# Altium footprint library MCU.PcbLib: 52 footprints (part 3 of 4)
Each footprint in its own frame and in the unit in brackets; x right, y up, seen from the top. Pads: shape width x height; smd on the part's side, far side on the other; paste and mask are expansions set on the pad; w line width, h text height; cw(c..) or ccw(c..) is an arc to the next point about the centre after c.
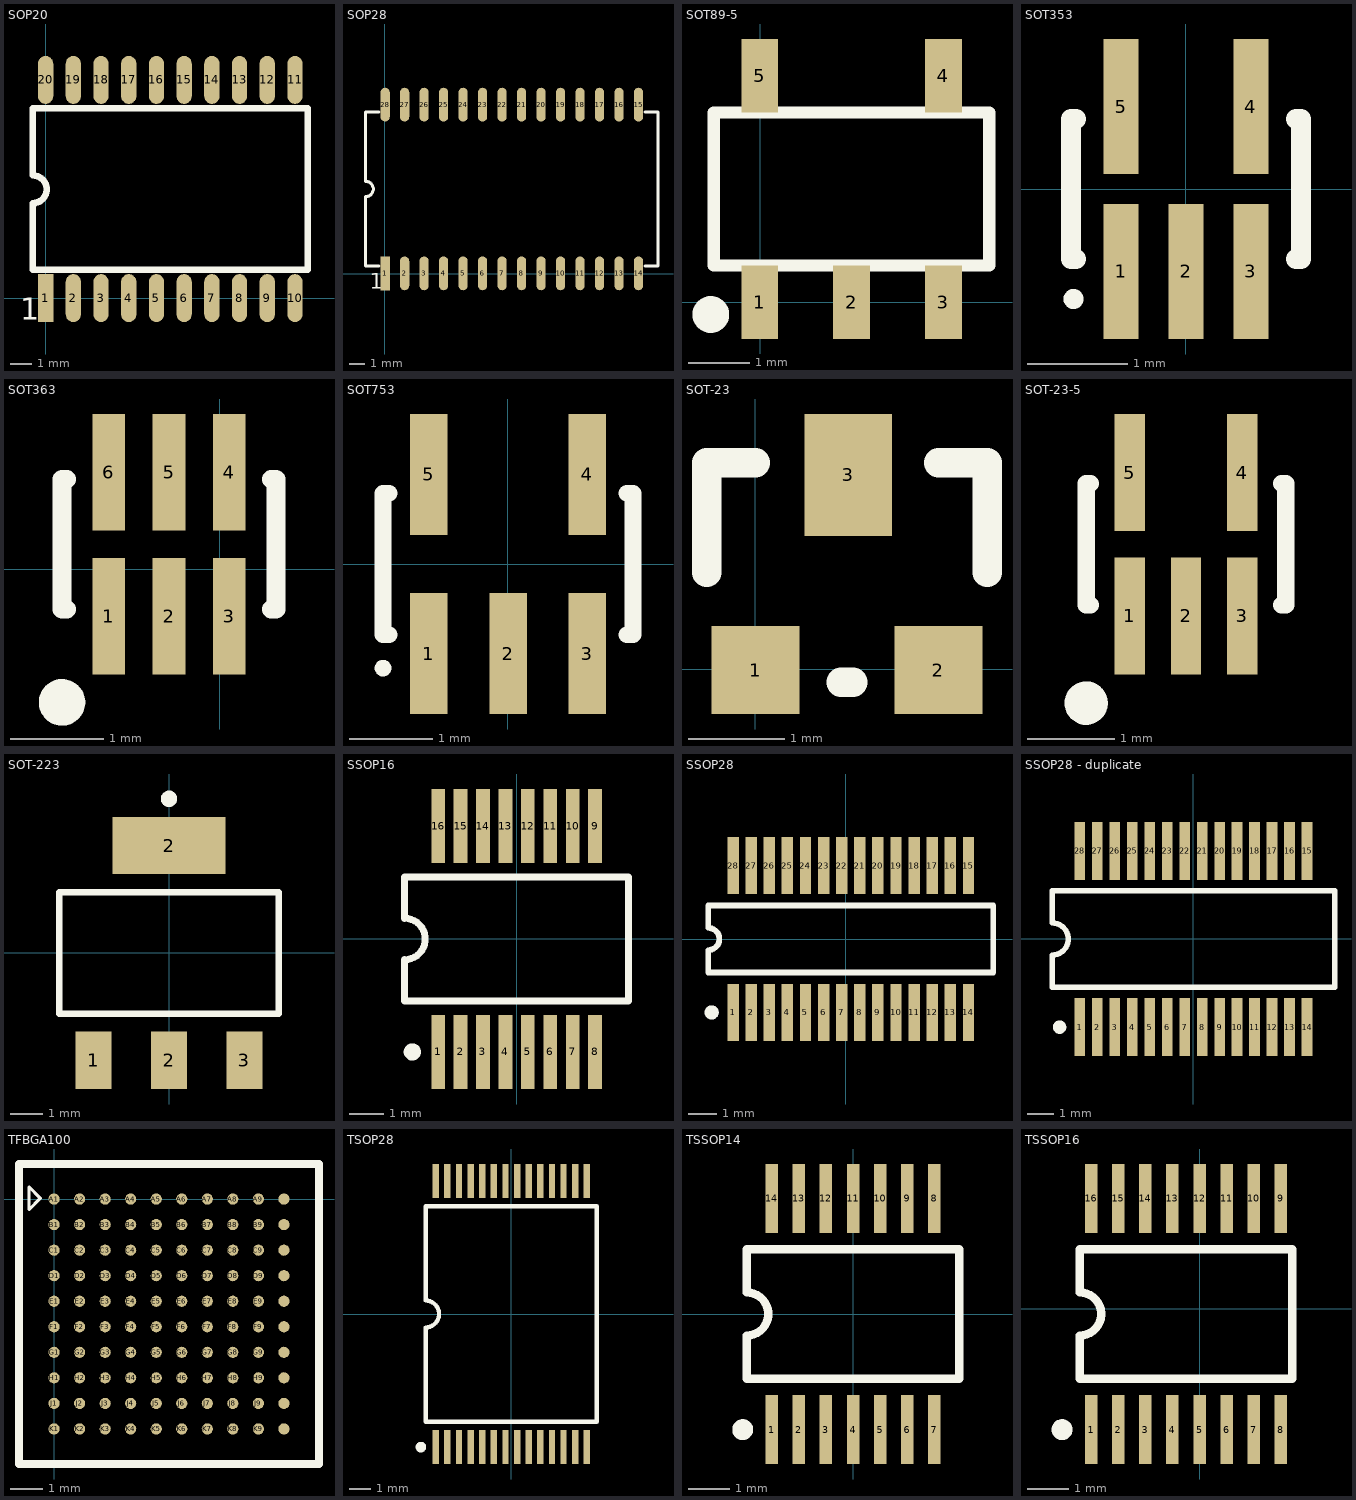
[diagram p2: the footprints below, top view; thin cyan lines are the x and y axes]

## SOP20 [mm]
pads (20):
  rect 0.7x2.2 smd: 1(-0.008,0.005)
  oval 0.7x2.2 smd: 2(1.262,0.005) 3(2.532,0.005) 4(3.802,0.005) 5(5.072,0.005) 6(6.342,0.005) 7(7.612,0.005) 8(8.882,0.005) 9(10.152,0.005) 10(11.422,0.005) 11(11.422,10.005) 12(10.152,10.005) 13(8.882,10.005) 14(7.612,10.005) 15(6.342,10.005) 16(5.072,10.005) 17(3.802,10.005) 18(2.532,10.005) 19(1.262,10.005) 20(-0.008,10.005)
Top Overlay:
  lines w0.3: -0.593,1.305 -0.593,4.355 ccw(c-0.593,4.99) -0.593,5.625 -0.593,8.705 12.007,8.705 12.007,1.305 -0.593,1.305
  text "1" at -1.177,-0.985 h1

## SOP28 [mm]
pads (28):
  rect 0.6x2.2 smd: 1(0.012,0.01)
  oval 0.6x2.2 smd: 2(1.282,0.01) 3(2.552,0.01) 4(3.822,0.01) 5(5.092,0.01) 6(6.362,0.01) 7(7.632,0.01) 8(8.902,0.01) 9(10.172,0.01) 10(11.442,0.01) 11(12.712,0.01) 12(13.982,0.01) 13(15.252,0.01) 14(16.522,0.01) 15(16.522,11.01) 16(15.252,11.01) 17(13.982,11.01) 18(12.712,11.01) 19(11.442,11.01) 20(10.172,11.01) 21(8.902,11.01) 22(7.632,11.01) 23(6.362,11.01) 24(5.092,11.01) 25(3.822,11.01) 26(2.552,11.01) 27(1.282,11.01) 28(0.012,11.01)
Top Overlay:
  lines w0.2: -0.408,0.495 -1.258,0.495 -1.258,5.01 ccw(c-1.258,5.51) -1.258,6.01 -1.258,10.525 -0.408,10.525 ; 16.942,0.495 17.792,0.495 17.792,10.525 16.942,10.525
  text "1" at -0.988,-0.99 h1

## SOT89-5 [mm]
pads (6):
  rect 0.6x1.2 smd: 1(-0.006,-0.004) 2(1.494,-0.004) 3(2.994,-0.004) 4(2.994,3.696) 5(-0.006,3.696)
  rect 0x0 smd: 2(1.494,3.696)
Top Overlay:
  circle w0.4: c-0.806,-0.204 r0.1
  lines w0.2: -0.756,0.596 -0.756,3.096 3.744,3.096 3.744,0.596 -0.756,0.596

## SOT353 [mm] "SOT-353/SC-88A; 5 Leads; Body 2.2 x 2.2 mm, inc. leads (LxW max)"
height 1.1
pads (5):
  rect 0.35x1.35 smd: 1(-0.65,-0.825) 2(0,-0.825) 3(0.65,-0.825) 4(0.65,0.825) 5(-0.65,0.825)
Top Overlay:
  circle w0.1: c-1.125,-1.1 r0.05
  lines w0.2: -1.1,-0.7 -1.15,-0.7 -1.15,0.7 -1.1,0.7 ; 1.1,-0.7 1.15,-0.7 1.15,0.7 1.1,0.7

## SOT363 [mm]
pads (6):
  rect 0.35x1.25 smd: 1(-1.194,-0.508) 2(-0.544,-0.508) 3(0.106,-0.508) 4(0.106,1.042) 5(-0.544,1.042) 6(-1.194,1.042)
Top Overlay:
  circle w0.25: c-1.694,-1.433 r0.125
  lines w0.2: -1.644,-0.433 -1.694,-0.433 -1.694,0.967 -1.644,0.967 ; 0.556,-0.433 0.606,-0.433 0.606,0.967 0.556,0.967

## SOT753 [mm] "SOT-23/SC-74A; 5 Leads; Body 3.1 x 3 mm, inc. leads (LxW max)"
height 1.1
pads (5):
  rect 0.45x1.45 smd: 1(-0.95,-1.075) 2(0,-1.075) 3(0.95,-1.075) 4(0.95,1.075) 5(-0.95,1.075)
Top Overlay:
  circle w0.1: c-1.5,-1.25 r0.05
  lines w0.2: -1.425,-0.85 -1.5,-0.85 -1.5,0.85 -1.425,0.85 ; 1.425,-0.85 1.5,-0.85 1.5,0.85 1.425,0.85

## SOT-23 [mil]
pads (3):
  rect 36x36 smd: 1(0.11,-0.39) 2(75.11,-0.39)
  rect 36x50 smd: 3(38.11,79.61)
Top Overlay:
  lines w12: -19.89,39.61 -19.89,84.61 0.11,84.61 ; 35.11,-5.39 40.11,-5.39 ; 75.11,84.61 95.11,84.61 95.11,39.61

## SOT-23-5 [mm]
pads (5):
  rect 0.35x1.35 smd: 1(6.589,-8.47) 2(7.239,-8.47) 3(7.889,-8.47) 4(7.889,-6.82) 5(6.589,-6.82)
Top Overlay:
  circle w0.25: c6.089,-9.475 r0.125
  lines w0.2: 6.139,-8.345 6.089,-8.345 6.089,-6.945 6.139,-6.945 ; 8.339,-8.345 8.389,-8.345 8.389,-6.945 8.339,-6.945

## SOT-223 [mm] "SOT-223/SC-73; 4 Leads; Body 6.7 x 7.3 mm, inc. leads (LxW max)"
height 1.7
pads (4):
  rect 1.1x1.75 smd: 1(-2.3,-3.275) 2(0,-3.275) 3(2.3,-3.275)
  rect 3.45x1.75 smd: 2(0,3.275)
Top Overlay:
  circle w0.25: c0,4.7 r0.125
  lines w0.2: -3.35,-1.85 3.35,-1.85 3.35,1.85 -3.35,1.85 -3.35,-1.85

## SSOP16 [mm] "SSOP; 16 Leads; Body Width 5.3 mm; Pitch 0.65 mm"
height 2
pads (16):
  rect 0.4x2.15 smd: 1(-2.275,-3.275) 2(-1.625,-3.275) 3(-0.975,-3.275) 4(-0.325,-3.275) 5(0.325,-3.275) 6(0.975,-3.275) 7(1.625,-3.275) 8(2.275,-3.275) 9(2.275,3.275) 10(1.625,3.275) 11(0.975,3.275) 12(0.325,3.275) 13(-0.325,3.275) 14(-0.975,3.275) 15(-1.625,3.275) 16(-2.275,3.275)
Top Overlay:
  circle w0.25: c-3.025,-3.275 r0.125
  lines w0.2: -3.25,-1.8 -3.25,-0.6 ccw(c-3.25,0) -3.25,0.6 -3.25,1.8 3.25,1.8 3.25,-1.8 -3.25,-1.8

## SSOP28 [mm]
pads (28):
  rect 0.4x2 smd: 1(-3.95,-2.575) 2(-3.315,-2.575) 3(-2.68,-2.575) 4(-2.045,-2.575) 5(-1.41,-2.575) 6(-0.775,-2.575) 7(-0.14,-2.575) 8(0.495,-2.575) 9(1.13,-2.575) 10(1.765,-2.575) 11(2.4,-2.575) 12(3.035,-2.575) 13(3.67,-2.575) 14(4.305,-2.575) 15(4.305,2.575) 16(3.67,2.575) 17(3.035,2.575) 18(2.4,2.575) 19(1.765,2.575) 20(1.13,2.575) 21(0.495,2.575) 22(-0.14,2.575) 23(-0.775,2.575) 24(-1.41,2.575) 25(-2.045,2.575) 26(-2.68,2.575) 27(-3.315,2.575) 28(-3.95,2.575)
Top Overlay:
  circle w0.25: c-4.7,-2.575 r0.125
  lines w0.2: -4.822,-1.175 -4.822,-0.392 ccw(c-4.822,0) -4.822,0.392 -4.822,1.175 5.178,1.175 5.178,-1.175 -4.822,-1.175

## SSOP28 - duplicate [mm] "SSOP, Plastic; 28 Leads; Body Width 5.3 mm; Pitch 0.65 mm"
height 2
pads (28):
  rect 0.4x2.15 smd: 1(-4.225,-3.275) 2(-3.575,-3.275) 3(-2.925,-3.275) 4(-2.275,-3.275) 5(-1.625,-3.275) 6(-0.975,-3.275) 7(-0.325,-3.275) 8(0.325,-3.275) 9(0.975,-3.275) 10(1.625,-3.275) 11(2.275,-3.275) 12(2.925,-3.275) 13(3.575,-3.275) 14(4.225,-3.275) 15(4.225,3.275) 16(3.575,3.275) 17(2.925,3.275) 18(2.275,3.275) 19(1.625,3.275) 20(0.975,3.275) 21(0.325,3.275) 22(-0.325,3.275) 23(-0.975,3.275) 24(-1.625,3.275) 25(-2.275,3.275) 26(-2.925,3.275) 27(-3.575,3.275) 28(-4.225,3.275)
Top Overlay:
  circle w0.25: c-4.975,-3.275 r0.125
  lines w0.2: -5.25,-1.8 -5.25,-0.6 ccw(c-5.25,0) -5.25,0.6 -5.25,1.8 5.25,1.8 5.25,-1.8 -5.25,-1.8

## TFBGA100 [mm]
height 2
pads (100):
  round 0.35 smd: A1(0,0) A2(0.8,0) A3(1.6,0) A4(2.4,0) A5(3.2,0) A6(4,0) A7(4.8,0) A8(5.6,0) A9(6.4,0) A10(7.2,0) B1(0,-0.8) B2(0.8,-0.8) B3(1.6,-0.8) B4(2.4,-0.8) B5(3.2,-0.8) B6(4,-0.8) B7(4.8,-0.8) B8(5.6,-0.8) B9(6.4,-0.8) B10(7.2,-0.8) C1(0,-1.6) C2(0.8,-1.6) C3(1.6,-1.6) C4(2.4,-1.6) C5(3.2,-1.6) C6(4,-1.6) C7(4.8,-1.6) C8(5.6,-1.6) C9(6.4,-1.6) C10(7.2,-1.6) D1(0,-2.4) D2(0.8,-2.4) D3(1.6,-2.4) D4(2.4,-2.4) D5(3.2,-2.4) D6(4,-2.4) D7(4.8,-2.4) D8(5.6,-2.4) D9(6.4,-2.4) D10(7.2,-2.4) E1(0,-3.2) E2(0.8,-3.2) E3(1.6,-3.2) E4(2.4,-3.2) E5(3.2,-3.2) E6(4,-3.2) E7(4.8,-3.2) E8(5.6,-3.2) E9(6.4,-3.2) E10(7.2,-3.2) F1(0,-4) F2(0.8,-4) F3(1.6,-4) F4(2.4,-4) F5(3.2,-4) F6(4,-4) F7(4.8,-4) F8(5.6,-4) F9(6.4,-4) F10(7.2,-4) G1(0,-4.8) G2(0.8,-4.8) G3(1.6,-4.8) G4(2.4,-4.8) G5(3.2,-4.8) G6(4,-4.8) G7(4.8,-4.8) G8(5.6,-4.8) G9(6.4,-4.8) G10(7.2,-4.8) H1(0,-5.6) H2(0.8,-5.6) H3(1.6,-5.6) H4(2.4,-5.6) H5(3.2,-5.6) H6(4,-5.6) H7(4.8,-5.6) H8(5.6,-5.6) H9(6.4,-5.6) H10(7.2,-5.6) J1(0,-6.4) J2(0.8,-6.4) J3(1.6,-6.4) J4(2.4,-6.4) J5(3.2,-6.4) J6(4,-6.4) J7(4.8,-6.4) J8(5.6,-6.4) J9(6.4,-6.4) J10(7.2,-6.4) K1(0,-7.2) K2(0.8,-7.2) K3(1.6,-7.2) K4(2.4,-7.2) K5(3.2,-7.2) K6(4,-7.2) K7(4.8,-7.2) K8(5.6,-7.2) K9(6.4,-7.2) K10(7.2,-7.2)
Top Overlay:
  lines w0.1: -0.787,-0.33 -0.787,0.381 -0.432,0.025 -0.787,-0.33
  lines w0.254: -1.1,1.1 -1.1,-8.3 8.3,-8.3 8.3,1.1 -1.067,1.1

## TSOP28 [mm] "Shrink Small Outline; 28 Leads; Body Width 11.8 mm; Pitch 0.55 mm"
height 1.1
pads (28):
  rect 0.3x1.6 smd: 1(-3.575,-6.3) 2(-3.025,-6.3) 3(-2.475,-6.3) 4(-1.925,-6.3) 5(-1.375,-6.3) 6(-0.825,-6.3) 7(-0.275,-6.3) 8(0.275,-6.3) 9(0.825,-6.3) 10(1.375,-6.3) 11(1.925,-6.3) 12(2.475,-6.3) 13(3.025,-6.3) 14(3.575,-6.3) 15(3.575,6.3) 16(3.025,6.3) 17(2.475,6.3) 18(1.925,6.3) 19(1.375,6.3) 20(0.825,6.3) 21(0.275,6.3) 22(-0.275,6.3) 23(-0.825,6.3) 24(-1.375,6.3) 25(-1.925,6.3) 26(-2.475,6.3) 27(-3.025,6.3) 28(-3.575,6.3)
Top Overlay:
  circle w0.25: c-4.275,-6.3 r0.125
  lines w0.2: -4.05,-5.1 -4.05,-0.635 ccw(c-4.05,0) -4.05,0.635 -4.05,5.1 4.05,5.1 4.05,-5.1 -4.05,-5.1

## TSSOP14 [mm] "Shrink Small Outline; 14 Leads; Body Width 4.4 mm; Pitch 0.65 mm"
height 1.1
pads (14):
  rect 0.3x1.65 smd: 1(-1.95,-2.775) 2(-1.3,-2.775) 3(-0.65,-2.775) 4(0,-2.775) 5(0.65,-2.775) 6(1.3,-2.775) 7(1.95,-2.775) 8(1.95,2.775) 9(1.3,2.775) 10(0.65,2.775) 11(0,2.775) 12(-0.65,2.775) 13(-1.3,2.775) 14(-1.95,2.775)
Top Overlay:
  circle w0.25: c-2.65,-2.775 r0.125
  lines w0.2: -2.55,-1.55 2.55,-1.55 2.55,1.55 -2.55,1.55 -2.55,0.517 cw(c-2.55,0) -2.55,-0.517 -2.55,-1.55

## TSSOP16 [mm]
pads (16):
  rect 0.3x1.65 smd: 1(-2.605,-2.902) 2(-1.955,-2.902) 3(-1.305,-2.902) 4(-0.655,-2.902) 5(-0.005,-2.902) 6(0.645,-2.902) 7(1.295,-2.902) 8(1.945,-2.902) 9(1.945,2.648) 10(1.295,2.648) 11(0.645,2.648) 12(-0.005,2.648) 13(-0.655,2.648) 14(-1.305,2.648) 15(-1.955,2.648) 16(-2.605,2.648)
Top Overlay:
  circle w0.25: c-3.305,-2.902 r0.125
  lines w0.2: -2.88,-1.677 -2.88,-0.644 ccw(c-2.88,-0.127) -2.88,0.39 -2.88,1.423 2.22,1.423 2.22,-1.677 -2.88,-1.677